# EAGLE library part FT232RL (library communication)
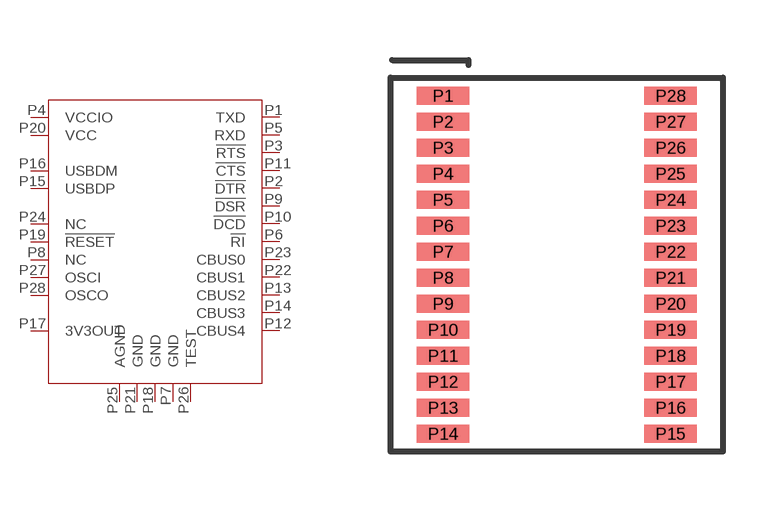
[diagram p0: symbol with the pads of SSOP28; footprint SSOP28]

Designator prefix U

## FT232RL  [SSOP28]
P1  TXD
P2  !DTR
P3  !RTS
P4  VCCIO
P5  RXD
P6  !RI
P7  GND
P8  NC
P9  !DSR
P10  !DCD
P11  !CTS
P12  CBUS4
P13  CBUS2
P14  CBUS3
P15  USBDP
P16  USBDM
P17  3V3OUT
P18  GND
P19  !RESET
P20  VCC
P21  GND
P22  CBUS1
P23  CBUS0
P24  NC
P25  AGND
P26  TEST
P27  OSCI
P28  OSCO

## Footprint SSOP28 (pad centres in mm)
smd 1.31 x 0.45: P1 0,0; P2 0,-0.65; P3 0,-1.3; P4 0,-1.95; P5 0,-2.6; P6 0,-3.25; P7 0,-3.9; P8 0,-4.55; P9 0,-5.2; P10 0,-5.85; P11 0,-6.5; P12 0,-7.15; P13 0,-7.8; P14 0,-8.45; P15 5.69,-8.45; P16 5.69,-7.8; P17 5.69,-7.15; P18 5.69,-6.5; P19 5.69,-5.85; P20 5.69,-5.2; P21 5.69,-4.55; P22 5.69,-3.9; P23 5.69,-3.25; P24 5.69,-2.6; P25 5.69,-1.95; P26 5.69,-1.3; P27 5.69,-0.65; P28 5.69,0